# Altium footprint library SOIC.PcbLib: 22 footprints (part 2 of 2)
Each footprint in its own frame and in the unit in brackets; x right, y up, seen from the top. Pads: shape width x height; smd on the part's side, far side on the other; paste and mask are expansions set on the pad; w line width, h text height; cw(c..) or ccw(c..) is an arc to the next point about the centre after c.
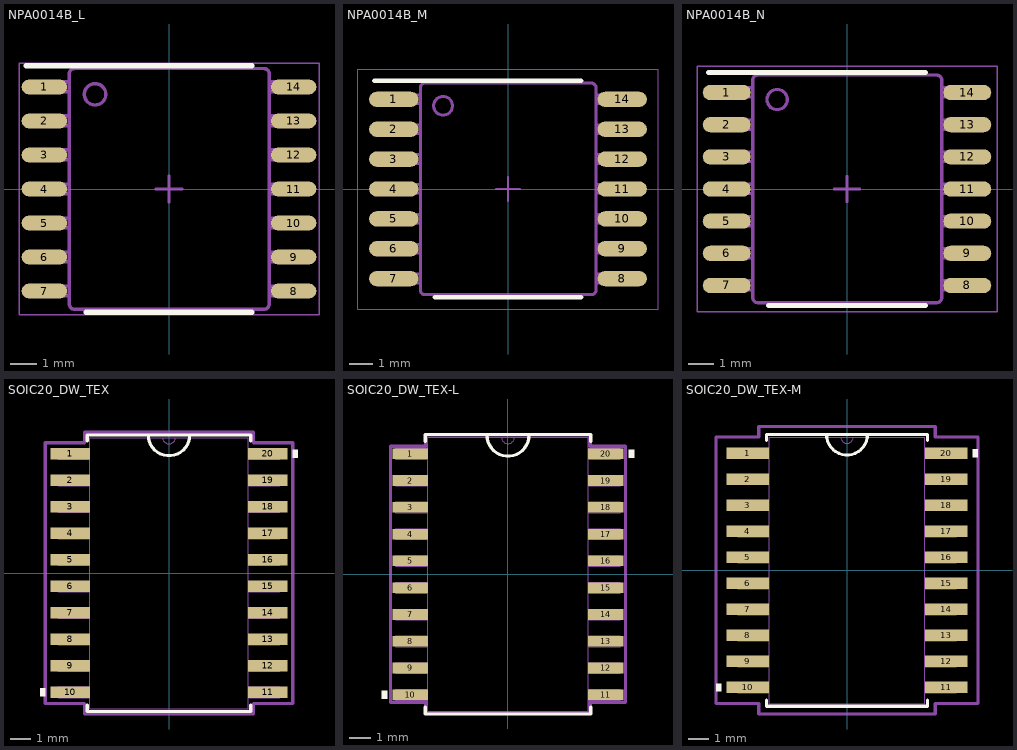
[diagram p1: the footprints below, top view; thin cyan lines are the x and y axes]

## NPA0014B_L [mm]
pads (14):
  oval 1.7x0.55 smd: 1(-4.65,3.81) 2(-4.65,2.54) 3(-4.65,1.27) 4(-4.65,0) 5(-4.65,-1.27) 6(-4.65,-2.54) 7(-4.65,-3.81) 8(4.65,-3.81) 9(4.65,-2.54) 10(4.65,-1.27) 11(4.65,0) 12(4.65,1.27) 13(4.65,2.54) 14(4.65,3.81)
Top Overlay:
  lines w0.2: -5.325,4.6 3.1,4.6 ; -3.1,-4.6 3.1,-4.6
Mechanical 13:
  drawing of 186 lines, arcs and shapes, not listed
Mechanical 15:
  lines w0.05: -5.6,-4.7 -5.6,4.7 5.6,4.7 5.6,-4.7 -5.6,-4.7
  lines w0.1: -0.5,0 0.5,0 ; 0,-0.5 0,0.5
3D body "NPA0014B.stp": height 2.44, standoff -0.02, extent -5.143,-4.496 5.143,4.496

## NPA0014B_M [mm]
pads (14):
  oval 2.1x0.65 smd: 1(-4.85,3.81) 2(-4.85,2.54) 3(-4.85,1.27) 4(-4.85,0) 5(-4.85,-1.27) 6(-4.85,-2.54) 7(-4.85,-3.81) 8(4.85,-3.81) 9(4.85,-2.54) 10(4.85,-1.27) 11(4.85,0) 12(4.85,1.27) 13(4.85,2.54) 14(4.85,3.81)
Top Overlay:
  lines w0.2: -5.675,4.6 3.1,4.6 ; -3.1,-4.6 3.1,-4.6
Mechanical 13:
  drawing of 186 lines, arcs and shapes, not listed
Mechanical 15:
  lines w0.05: -6.375,-5.1 -6.375,5.1 6.375,5.1 6.375,-5.1 -6.375,-5.1
  lines w0.1: -0.5,0 0.5,0 ; 0,-0.5 0,0.5
3D body "NPA0014B.stp": height 2.44, standoff -0.02, extent -5.143,-4.496 5.143,4.496

## NPA0014B_N [mm]
pads (14):
  oval 1.9x0.6 smd: 1(-4.75,3.81) 2(-4.75,2.54) 3(-4.75,1.27) 4(-4.75,0) 5(-4.75,-1.27) 6(-4.75,-2.54) 7(-4.75,-3.81) 8(4.75,-3.81) 9(4.75,-2.54) 10(4.75,-1.27) 11(4.75,0) 12(4.75,1.27) 13(4.75,2.54) 14(4.75,3.81)
Top Overlay:
  lines w0.2: -5.475,4.6 3.1,4.6 ; -3.1,-4.6 3.1,-4.6
Mechanical 13:
  drawing of 186 lines, arcs and shapes, not listed
Mechanical 15:
  lines w0.05: -5.925,-4.85 5.925,-4.85 5.925,4.85 -5.925,4.85 -5.925,-4.85
  lines w0.1: -0.5,0 0.5,0 ; 0,-0.5 0,0.5
3D body "NPA0014B.stp": height 2.44, standoff -0.02, extent -5.143,-4.496 5.143,4.496

## SOIC20_DW_TEX [mil]
pads (20):
  rect 74x22 smd paste+0 mask+0: 1(-186.5,225) 2(-186.5,175) 3(-186.5,125) 4(-186.5,75) 5(-186.5,25) 6(-186.5,-25) 7(-186.5,-75) 8(-186.5,-125) 9(-186.5,-175) 10(-186.5,-225) 11(186.5,-225) 12(186.5,-175) 13(186.5,-125) 14(186.5,-75) 15(186.5,-25) 16(186.5,25) 17(186.5,75) 18(186.5,125) 19(186.5,175) 20(186.5,225)
Top Overlay:
  region: 233.5,232.5 243.5,232.5 243.5,217.5 233.5,217.5
  region: -233.5,-217.5 -243.5,-217.5 -243.5,-232.5 -233.5,-232.5
  lines w6: -154.5,-249.1 -154.5,-261 154.5,-261 154.5,-249.1 ; -154.5,249.1 -154.5,261 154.5,261 154.5,249.1 ; -39.37,261 ccw(c0,261) 39.37,261
Mechanical 13:
  lines w0: -12,256 ccw(c0,256) 12,256
  lines w1: -209.5,-235 -149.5,-235 -149.5,-215 -209.5,-215 -209.5,-235 ; -209.5,-185 -149.5,-185 -149.5,-165 -209.5,-165 -209.5,-185 ; -209.5,-135 -149.5,-135 -149.5,-115 -209.5,-115 -209.5,-135 ; -209.5,-85 -149.5,-85 -149.5,-65 -209.5,-65 -209.5,-85 ; -209.5,-35 -149.5,-35 -149.5,-15 -209.5,-15 -209.5,-35 ; -209.5,15 -149.5,15 -149.5,35 -209.5,35 -209.5,15 ; -209.5,65 -149.5,65 -149.5,85 -209.5,85 -209.5,65 ; -209.5,115 -149.5,115 -149.5,135 -209.5,135 -209.5,115 ; -209.5,165 -149.5,165 -149.5,185 -209.5,185 -209.5,165 ; -209.5,215 -149.5,215 -149.5,235 -209.5,235 -209.5,215 ; -149.5,-256 -149.5,256 149.5,256 149.5,-256 -149.5,-256 ; 149.5,-235 209.5,-235 209.5,-215 149.5,-215 149.5,-235 ; 149.5,-185 209.5,-185 209.5,-165 149.5,-165 149.5,-185 ; 149.5,-135 209.5,-135 209.5,-115 149.5,-115 149.5,-135 ; 149.5,-85 209.5,-85 209.5,-65 149.5,-65 149.5,-85 ; 149.5,-35 209.5,-35 209.5,-15 149.5,-15 149.5,-35 ; 149.5,15 209.5,15 209.5,35 149.5,35 149.5,15 ; 149.5,65 209.5,65 209.5,85 149.5,85 149.5,65 ; 149.5,115 209.5,115 209.5,135 149.5,135 149.5,115 ; 149.5,165 209.5,165 209.5,185 149.5,185 149.5,165 ; 149.5,215 209.5,215 209.5,235 149.5,235 149.5,215
Mechanical 15:
  lines w6: -233.5,-246 -159.5,-246 -159.5,-266 159.5,-266 159.5,-246 233.5,-246 233.5,246 159.5,246 159.5,266 -159.5,266 -159.5,246 -233.5,246 -233.5,-246
3D body "SOIC20_DW_TEX.step": height 104.09, standoff 0, extent -209.49,-255.98 209.49,255.98

## SOIC20_DW_TEX-L [mil]
pads (20):
  rect 66x20 smd paste+0 mask+0: 1(-182.5,225) 2(-182.5,175) 3(-182.5,125) 4(-182.5,75) 5(-182.5,25) 6(-182.5,-25) 7(-182.5,-75) 8(-182.5,-125) 9(-182.5,-175) 10(-182.5,-225) 11(182.5,-225) 12(182.5,-175) 13(182.5,-125) 14(182.5,-75) 15(182.5,-25) 16(182.5,25) 17(182.5,75) 18(182.5,125) 19(182.5,175) 20(182.5,225)
Top Overlay:
  region: 225.5,232.5 235.5,232.5 235.5,217.5 225.5,217.5
  region: -225.5,-217.5 -235.5,-217.5 -235.5,-232.5 -225.5,-232.5
  lines w6: -154.5,-248.1 -154.5,-261 154.5,-261 154.5,-248.1 ; -154.5,248.1 -154.5,261 154.5,261 154.5,248.1 ; -39.37,260 ccw(c0,260) 39.37,260
Mechanical 13:
  lines w0: -12,256 ccw(c0,256) 12,256
  lines w1: -209.5,-235 -149.5,-235 -149.5,-215 -209.5,-215 -209.5,-235 ; -209.5,-185 -149.5,-185 -149.5,-165 -209.5,-165 -209.5,-185 ; -209.5,-135 -149.5,-135 -149.5,-115 -209.5,-115 -209.5,-135 ; -209.5,-85 -149.5,-85 -149.5,-65 -209.5,-65 -209.5,-85 ; -209.5,-35 -149.5,-35 -149.5,-15 -209.5,-15 -209.5,-35 ; -209.5,15 -149.5,15 -149.5,35 -209.5,35 -209.5,15 ; -209.5,65 -149.5,65 -149.5,85 -209.5,85 -209.5,65 ; -209.5,115 -149.5,115 -149.5,135 -209.5,135 -209.5,115 ; -209.5,165 -149.5,165 -149.5,185 -209.5,185 -209.5,165 ; -209.5,215 -149.5,215 -149.5,235 -209.5,235 -209.5,215 ; -149.5,-256 -149.5,256 149.5,256 149.5,-256 -149.5,-256 ; 149.5,-235 209.5,-235 209.5,-215 149.5,-215 149.5,-235 ; 149.5,-185 209.5,-185 209.5,-165 149.5,-165 149.5,-185 ; 149.5,-135 209.5,-135 209.5,-115 149.5,-115 149.5,-135 ; 149.5,-85 209.5,-85 209.5,-65 149.5,-65 149.5,-85 ; 149.5,-35 209.5,-35 209.5,-15 149.5,-15 149.5,-35 ; 149.5,15 209.5,15 209.5,35 149.5,35 149.5,15 ; 149.5,65 209.5,65 209.5,85 149.5,85 149.5,65 ; 149.5,115 209.5,115 209.5,135 149.5,135 149.5,115 ; 149.5,165 209.5,165 209.5,185 149.5,185 149.5,165 ; 149.5,215 209.5,215 209.5,235 149.5,235 149.5,215
Mechanical 15:
  lines w6: -219.5,-239 -153.5,-239 -153.5,-260 153.5,-260 153.5,-239 219.5,-239 219.5,239 153.5,239 153.5,260 -153.5,260 -153.5,239 -219.5,239 -219.5,-239
3D body "SOIC20_DW_TEX.step": height 104.09, standoff 0, extent -209.49,-255.98 209.49,255.98

## SOIC20_DW_TEX-M [mil]
pads (20):
  rect 82x22 smd paste+0 mask+0: 1(-190.5,225) 2(-190.5,175) 3(-190.5,125) 4(-190.5,75) 5(-190.5,25) 6(-190.5,-25) 7(-190.5,-75) 8(-190.5,-125) 9(-190.5,-175) 10(-190.5,-225) 11(190.5,-225) 12(190.5,-175) 13(190.5,-125) 14(190.5,-75) 15(190.5,-25) 16(190.5,25) 17(190.5,75) 18(190.5,125) 19(190.5,175) 20(190.5,225)
Top Overlay:
  region: 241.5,232.5 251.5,232.5 251.5,217.5 241.5,217.5
  region: -241.5,-217.5 -251.5,-217.5 -251.5,-232.5 -241.5,-232.5
  lines w6: -154.5,-249.1 -154.5,-261 154.5,-261 154.5,-249.1 ; -154.5,249.1 -154.5,261 154.5,261 154.5,249.1 ; -39.37,261 ccw(c0,261) 39.37,261
Mechanical 13:
  lines w0: -12,256 ccw(c0,256) 12,256
  lines w1: -209.5,-235 -149.5,-235 -149.5,-215 -209.5,-215 -209.5,-235 ; -209.5,-185 -149.5,-185 -149.5,-165 -209.5,-165 -209.5,-185 ; -209.5,-135 -149.5,-135 -149.5,-115 -209.5,-115 -209.5,-135 ; -209.5,-85 -149.5,-85 -149.5,-65 -209.5,-65 -209.5,-85 ; -209.5,-35 -149.5,-35 -149.5,-15 -209.5,-15 -209.5,-35 ; -209.5,15 -149.5,15 -149.5,35 -209.5,35 -209.5,15 ; -209.5,65 -149.5,65 -149.5,85 -209.5,85 -209.5,65 ; -209.5,115 -149.5,115 -149.5,135 -209.5,135 -209.5,115 ; -209.5,165 -149.5,165 -149.5,185 -209.5,185 -209.5,165 ; -209.5,215 -149.5,215 -149.5,235 -209.5,235 -209.5,215 ; -149.5,-256 -149.5,256 149.5,256 149.5,-256 -149.5,-256 ; 149.5,-235 209.5,-235 209.5,-215 149.5,-215 149.5,-235 ; 149.5,-185 209.5,-185 209.5,-165 149.5,-165 149.5,-185 ; 149.5,-135 209.5,-135 209.5,-115 149.5,-115 149.5,-135 ; 149.5,-85 209.5,-85 209.5,-65 149.5,-65 149.5,-85 ; 149.5,-35 209.5,-35 209.5,-15 149.5,-15 149.5,-35 ; 149.5,15 209.5,15 209.5,35 149.5,35 149.5,15 ; 149.5,65 209.5,65 209.5,85 149.5,85 149.5,65 ; 149.5,115 209.5,115 209.5,135 149.5,135 149.5,115 ; 149.5,165 209.5,165 209.5,185 149.5,185 149.5,165 ; 149.5,215 209.5,215 209.5,235 149.5,235 149.5,215
Mechanical 15:
  lines w6: -251.5,-256 -169.5,-256 -169.5,-276 169.5,-276 169.5,-256 251.5,-256 251.5,256 169.5,256 169.5,276 -169.5,276 -169.5,256 -251.5,256 -251.5,-256
3D body "SOIC20_DW_TEX.step": height 104.09, standoff 0, extent -209.49,-255.98 209.49,255.98